# EAGLE library part CAZ_7SEGMENT_RGB_LED (library caz_lib)
adafruit: RGB 7-Segment Digit ID: 1399 <http://www.adafruit.com/products/1399> $14.95 Datasheet <http://www.adafruit.com/datasheets/AD-121F2_cat_e.pdf> Spec: 1" Tall Digit
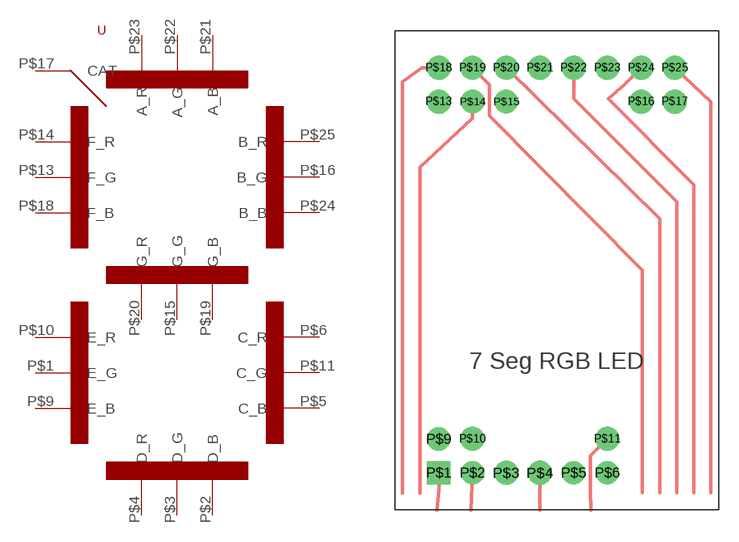
[diagram p0: symbol with the pads of CAZ_7SEGMENT_RGB_LED; footprint CAZ_7SEGMENT_RGB_LED]

Designator prefix -

## CAZ_7SEGMENT_RGB_LEDBACKSIDE_MOUNT (CREATED_BY: caz; SOLD_BY: adafruit)  [CAZ_7SEGMENT_RGB_LED]
P$1  E_G
P$2  D_B
P$3  D_G
P$4  D_R
P$5  C_B
P$6  C_R
P$9  E_B
P$10  E_R
P$11  C_G
P$13  F_G
P$14  F_R
P$15  G_G
P$16  B_G
P$17  CAT
P$18  F_B
P$19  G_B
P$20  G_R
P$21  A_B
P$22  A_G
P$23  A_R
P$24  B_B
P$25  B_R

## Footprint CAZ_7SEGMENT_RGB_LED (pad centres in mm)
drill 1.016 pad 1.727 square: P$1 -8.75,-15
drill 1.016 pad 1.727: P$2 -6.25,-15; P$5 1.25,-15; P$6 3.75,-15; P$9 -8.75,-12.5; P$14 -6.25,12.5; P$15 -3.75,12.5
drill 1.016 pad 1.778: P$3 -3.75,-15; P$4 -1.25,-15; P$10 -6.25,-12.5; P$11 3.75,-12.5; P$13 -8.75,12.5; P$16 6.25,12.5; P$17 8.75,12.5; P$18 -8.75,15; P$19 -6.25,15; P$20 -3.75,15; P$21 -1.25,15; P$22 1.25,15; P$23 3.75,15; P$24 6.25,15; P$25 8.75,15